# Altium integrated library PCB_Project_denilson.IntLib: 13 symbols
Pins are listed as number, name and electrical type; pins without a type are passive.

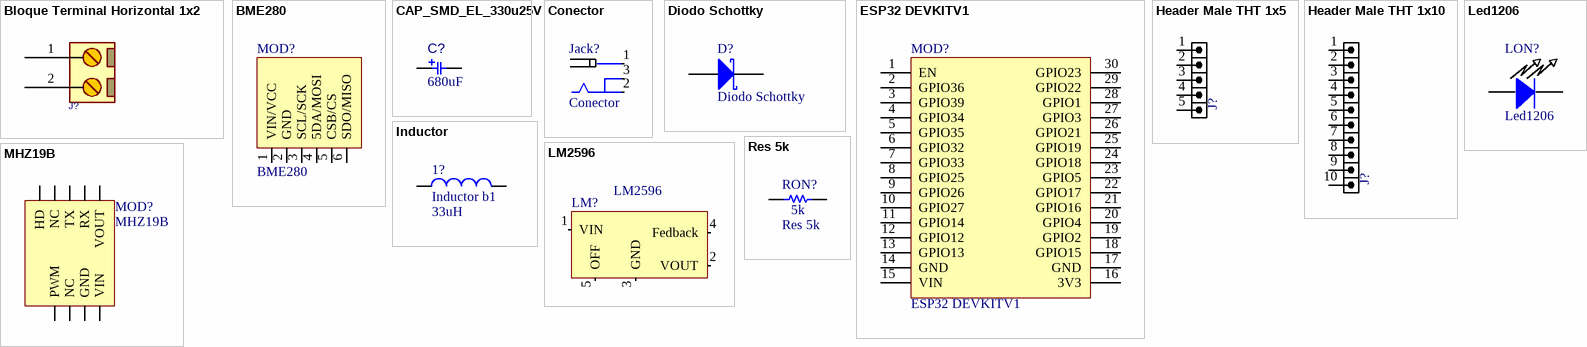
[diagram p0: symbols Bloque Terminal Horizontal 1x2 to Res 5k]

## Bloque Terminal Horizontal 1x2
designator J?, comment ?  (value not drawn)
CONN, PHOENIX GMSTB, 7.62mm pitch; Huella: ?; Link_Supplier: ?; Manufacturer: ?; Manufacturer Part: ?; Price: ?; Supplier: ?; Supplier Part: ?; Value: ?
footprint MSTBF_2 (PHOENIX MSTB 2, 5-G, 5.08mm pitch, 2pin)
pins: 1, 2

## BME280
designator MOD?
footprint HDR_F_1X6 (HEADER FEMALE pitch: 2.54mm)
pins: 1 VIN/VCC, 2 GND, 3 SCL/SCK, 4 5DA/MOSI, 5 CSB/CS, 6 SDO/MISO

## CAP_SMD_EL_330u25V
designator C?  Capacitance: 680uF
Capacitor;  Alum Electrolytic;  Cap 330 uF;  Tol 20%;  Vol-Rtg 25 VDC;  SMT;  8x10.5;  CT; Manufacturer: Panasonic; Manufacturer Part Number: EEE-1EA331UP; Ripple Current: 270mA; Life (Hours): 2000Hour; Voltage Rating: 25V; Leakage Current: 3uA; Supplier 1: Arrow Electronics; RoHS: Yes; Category: Aluminum Electrolytic Capacitors; Stock 1: 7000; Pricing 1: 500=0.19230, 1000=0.14820, 2500=0.14670, 10000=0.14520, 25000=0.14380, 50000=0.14230 (USD); Mount: Surface Mount,PCB; Case/Package: Radial; Contact Plating: Tin; Min Operating Temperature: -40°C; Max Operating Temperature: 85°C; Tolerance: 20%; Termination: SMD/SMT; Packaging: Tape and Reel; Package Quantity: 1; Voltage Rating (DC): 25V; Voltage: 25V; Ripple Current (AC): 270mA; Diameter: 8mm; Length: 10.5mm; Height: 10.2mm; Height - Seated (Max): 0.402inch; Radiation Hardening: No; Lead Free: Lead Free; REACH SVHC: No SVHC; ComponentLink1URL: https://datasheet.ciiva.com/24070/aba0000ce2-40801-24070005.pdf?src-supplier=Mouser; ComponentLink1Description: https://datasheet.ciiva.com/24070/aba0000ce2-40801-24070005.pdf?src-supplier=Mouser; ComponentLink2URL: https://datasheet.ciiva.com/46378/aba0000ce2-46378294.pdf?src-supplier=Element14; ComponentLink2Description: https://datasheet.ciiva.com/46378/aba0000ce2-46378294.pdf?src-supplier=Element14; ComponentLink3URL: https://datasheet.ciiva.com/30071/11aba0000ce2-30071959.pdf?src-supplier=Onlinecomponents.com; ComponentLink3Description: https://datasheet.ciiva.com/30071/11aba0000ce2-30071959.pdf?src-supplier=Onlinecomponents.com; ComponentLink4URL: https://datasheet.ciiva.com/31414/aba0000ce2-31414664.pdf?src-supplier=Farnell; ComponentLink4Description: https://datasheet.ciiva.com/31414/aba0000ce2-31414664.pdf?src-supplier=Farnell; ComponentLink5URL: https://datasheet.ciiva.com/46374/aba0000ce2-46374392.pdf?src-supplier=Element14; ComponentLink5Description: https://datasheet.ciiva.com/46374/aba0000ce2-46374392.pdf?src-supplier=Element14; ComponentLink6URL: https://datasheet.ciiva.com/16397/aba0000ce2-16397068.pdf?src-supplier=Future+Electronics; ComponentLink6Description: https://datasheet.ciiva.com/16397/aba0000ce2-16397068.pdf?src-supplier=Future+Electronics; ComponentLink7URL: https://datasheet.ciiva.com/17535/aba0000ce2-17535308.pdf?src-supplier=Avnet+Europe; ComponentLink7Description: https://datasheet.ciiva.com/17535/aba0000ce2-17535308.pdf?src-supplier=Avnet+Europe; ComponentLink8URL: https://datasheet.ciiva.com/2985/aba0000ce2-2985133.pdf?src-supplier=Avnet; ComponentLink8Description: https://datasheet.ciiva.com/2985/aba0000ce2-2985133.pdf?src-supplier=Avnet; ComponentLink9URL: https://datasheet.ciiva.com/14610/70255710-14610287.pdf?src-supplier=Allied+Electronics; ComponentLink9Description: https://datasheet.ciiva.com/14610/70255710-14610287.pdf?src-supplier=Allied+Electronics; Supplier Part Number 1: EEE-1EA331UP
footprint C_EL_8 (Electrolytic Capacitor, Size E, Size F, 8X10)
footprint C_EL_8
footprint RVT220UF16V67RV0015 (Electrolytic Cap, D: 6.3mm L: 7.7mm, Size D)
footprint CAP_EEEFK1E681SP (SMD,10x10.2mm)
pins: 1, 2

## Conector
designator Jack?
footprint Conector JACK
footprint Conector JACK
pins: 1 V+, 2 GND, 3

## Diodo Schottky
designator D?
footprint DO-214AC-2 (Molded Diode, 2-Leads, Body 4.40x2.50mm, IPC Medium Density)
pins: 1 K, 2 A

## ESP32 DEVKITV1
designator MOD?
footprint HDR_F_1X15 (Connector; Header; 15 Position)
pins: 1 EN, 2 GPIO36, 3 GPIO39, 4 GPIO34, 5 GPIO35, 6 GPIO32, 7 GPIO33, 8 GPIO25, 9 GPIO26, 10 GPIO27, 11 GPIO14, 12 GPIO12, 13 GPIO13, 14 GND, 15 VIN, 16 3V3, 17 GND, 18 GPIO15, 19 GPIO2, 20 GPIO4, 21 GPIO16, 22 GPIO17, 23 GPIO5, 24 GPIO18, 25 GPIO19, 26 GPIO21, 27 GPIO3, 28 GPIO1, 29 GPIO22, 30 GPIO23

## Header Male THT 1x5
designator J?, comment HDR1X5  (value not drawn)
CONN, HEADER, Male, pitch: 2.54mm, 5POS; Huella: ?; Link_Supplier: ?; Manufacturer: ?; Manufacturer Part: ?; Price: ?; Supplier: ?; Supplier Part: ?; Value: ?
footprint HDR_M_1X5 (Connector; Header; 5 Position)
pins: 1, 2, 3, 4, 5

## Header Male THT 1x10
designator J?, comment HDR1X10  (value not drawn)
CONN, HEADER, Male, pitch: 2.54mm, 10POS; Huella: ?; Link_Supplier: ?; Manufacturer: ?; Manufacturer Part: ?; Price: ?; Supplier: ?; Supplier Part: ?; Value: ?
footprint HDR_M_1X10
pins: 1, 2, 3, 4, 5, 6, 7, 8, 9, 10

## Inductor
designator 1?, comment Inductor b1  value 33uH
Inductor; Code_IEC: 1005; Published: 8-Jun-2000; LatestRevisionDate: 29-May-2009; LatestRevisionNote: IPC-7351 Footprint Added.; PackageReference: 0402-A; Publisher: Altium Limited; PackageDescription: Chip Inductor; Code_JEITA: 0402
footprint 0402-A (Chip Inductor, Body 1.0x0.5mm, IPC High Density)
footprint INDC1608L (Chip Inductor, Body 1.6x0.8mm, IPC High Density)
footprint 2029 (Chip Inductor, Body 2.0x1.2mm, IPC High Density)
footprint 0603 (Chip Inductor, Body 0.6x0.3mm, IPC High Density)
footprint INDC3216 (Chip Inductor, Body 3.2x1.6mm, IPC High Density)
footprint INDC4532 (Chip Inductor, Body 4.5x3.2mm, IPC High Density)
simulation model INDUCTOR (Inductor)
signal-integrity model Inductor
footprint BOBINA DR127
footprint BOBINA DR127
footprint CYH74-33UH (Precision Wire Wound Inductor, 2-Leads, Body 7.50x7.50mm, IPC Medium Density)
footprint CYH74-33UH (Precision Wire Wound Inductor, 2-Leads, Body 7.50x7.50mm, IPC Medium Density)
pins: 1, 2

## Led1206
designator LON?
NCD1206R1
footprint LED1206
footprint LED1206
pins: 1 Ànodo, 2 Càtodo

## LM2596
designator LM?
footprint LM2596
footprint LM2596
footprint LM2596
pins: 1 VIN, 2 VOUT, 3 GND, 4 Fedback, 5 OFF

## MHZ19B
designator MOD?
footprint HDR_F_1X5 (HEADER FEMALE pitch: 2.54mm)
pins: 1 PWM, 2 NC, 3 GND, 4 VIN, 5 VOUT, 6 RX, 7 TX, 8 NC, 9 HD

## Res 5k
designator RON?
ARG05DTC5001
footprint RES 0805 - 5k
pins: 1, 2
text: 5k